# Altium schematic symbol library SCH - MCU - NUVOTON - NUVOTON ML51BB9AE.SchLib: 1 symbol
Pins are listed as number, name and electrical type; pins without a type are passive.

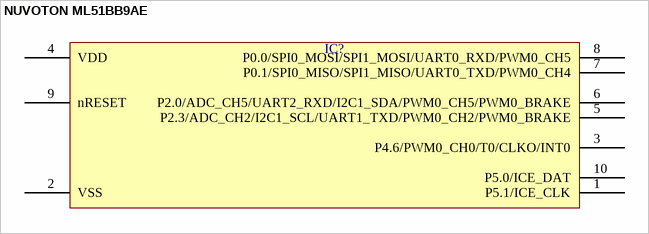
[diagram p0: symbol NUVOTON ML51BB9AE]

## NUVOTON ML51BB9AE
designator IC?  (value not drawn)
pins: 1 P5.1/ICE_CLK, 2 VSS, 3 P4.6/PWM0_CH0/T0/CLKO/INT0, 4 VDD, 5 P2.3/ADC_CH2/I2C1_SCL/UART1_TXD/PWM0_CH2/PWM0_BRAKE, 6 P2.0/ADC_CH5/UART2_RXD/I2C1_SDA/PWM0_CH5/PWM0_BRAKE, 7 P0.1/SPI0_MISO/SPI1_MISO/UART0_TXD/PWM0_CH4, 8 P0.0/SPI0_MOSI/SPI1_MOSI/UART0_RXD/PWM0_CH5, 9 nRESET, 10 P5.0/ICE_DAT